# Altium schematic symbol library GRM31CD80J107ME39K.SchLib: 1 symbol
Pins are listed as number, name and electrical type; pins without a type are passive.

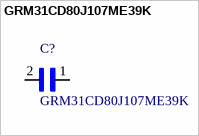
[diagram p0: symbol GRM31CD80J107ME39K]

## GRM31CD80J107ME39K
designator C?
/ 1206 6.3 V 100 uF Â±20% Tolerance X6T Monolithic Ceramic Chip Capacitor /; MF: Murata Electronics; Digi-Key_Purchase_URL: https://www.digikey.com/product-detail/en/murata-electronics/GRM31CD80J107ME39K/490-16313-1-ND/7363295?utm_source=snapeda&utm_medium=aggregator&utm_campaign=symbol; Package: 1206 Murata; SnapEDA_Link: https://www.snapeda.com/parts/GRM31CD80J107ME39K/Murata%20Electronics%20North%20America/view-part/?ref=snap; Digi-Key_Part_Number: 490-16313-1-ND; MP: GRM31CD80J107ME39K; Value: *
footprint *CAP3216X125N
pins: 1, 2